# Altium footprint library MW6S010GNR1.PcbLib: 1 footprints
Each footprint in its own frame and in the unit in brackets; x right, y up, seen from the top. Pads: shape width x height; smd on the part's side, far side on the other; paste and mask are expansions set on the pad; w line width, h text height; cw(c..) or ccw(c..) is an arc to the next point about the centre after c.
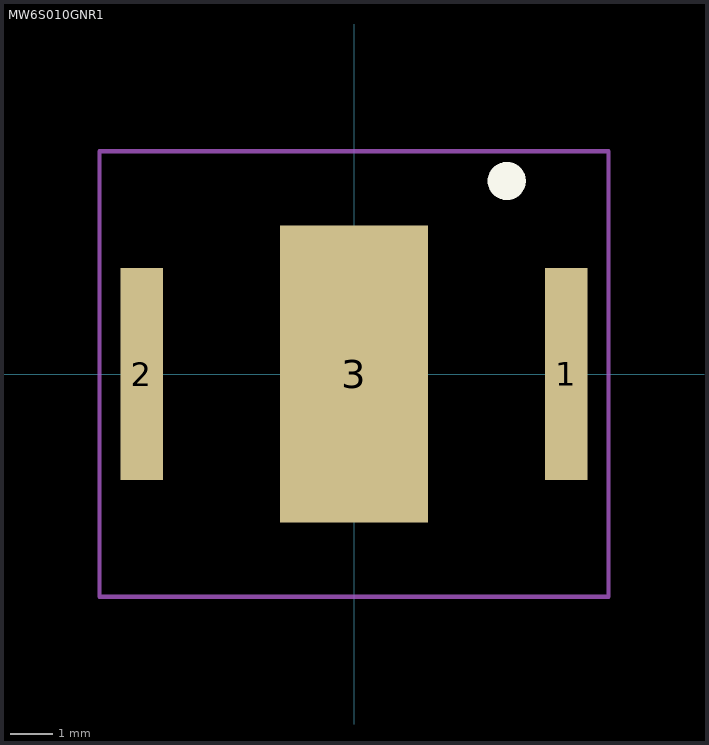
[diagram p0: the footprint, top view; thin cyan lines are the x and y axes]

## MW6S010GNR1 [mm]
pads (3):
  rect 1x5 smd: 1(5,0) 2(-5,0)
  rect 3.5x7 smd: 3(0,0)
Top Overlay:
  circle w0.5: c3.6,4.55 r0.2
Top Courtyard:
  lines w0.1: -6,-5.25 6,-5.25 6,5.25 -6,5.25 -6,-5.25
3D body "NXP-transistor-3D.SLDPRT": height 2.1, standoff 0, extent -4.531,-5 4.531,5